# EAGLE library part TPS62173 (library sensor_floor)
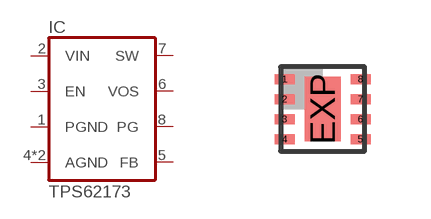
[diagram p4: symbol with the pads of WSON8; footprint WSON8]

Designator prefix IC

## TPS62173  [WSON8]
1  PGND
2  VIN
3  EN
4  AGND
5  FB
6  VOS
7  SW
8  PG
EXP  AGND

## Footprint WSON8 (pad centres in mm)
smd 0.5 x 0.25: 1 -0.95,0.75; 2 -0.95,0.25; 3 -0.95,-0.25; 4 -0.95,-0.75; 5 0.95,-0.75; 6 0.95,-0.25; 7 0.95,0.25; 8 0.95,0.75
smd 0.9 x 1.6: EXP 0,0